# EAGLE library part SVF-V2.0 (library XM8)
XM8 SVF Single board without output VCA
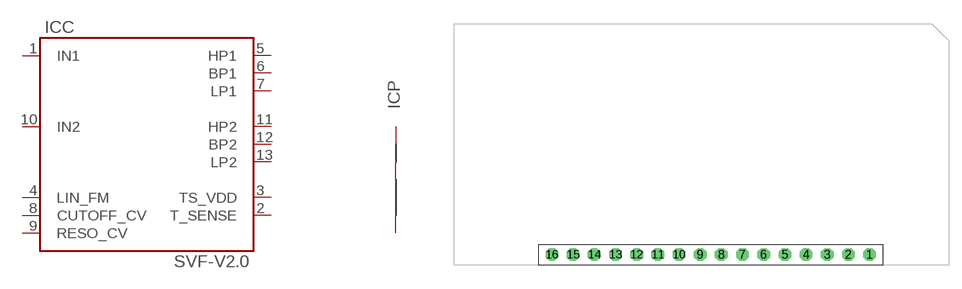
[diagram p30: symbol with the pads of XM8-SVF-V2.0R; footprint XM8-SVF-V2.0R]

Designator prefix IC; gates C=XM8-SVF-V2.0 P=XM8-PWR

## SVF-V2.0  [XM8-SVF-V2.0R]
1  C:IN1
2  C:T_SENSE
3  C:TS_VDD
4  C:LIN_FM
5  C:HP1
6  C:BP1
7  C:LP1  in
8  C:CUTOFF_CV
9  C:RESO_CV
10  C:IN2
11  C:HP2
12  C:BP2
13  C:LP2
14  P:+V  pwr
15  P:AGND  pwr
16  P:-V  pwr

## Footprint XM8-SVF-V2.0R (pad centres in mm)
Xonik State variable filter v2.0, components downward mount
drill 1.016 octagon: 1 19.05,0; 2 16.51,0; 3 13.97,0; 4 11.43,0; 5 8.89,0; 6 6.35,0; 7 3.81,0; 8 1.27,0; 9 -1.27,0; 10 -3.81,0; 11 -6.35,0; 12 -8.89,0; 13 -11.43,0; 14 -13.97,0; 15 -16.51,0; 16 -19.05,0